# EAGLE library part BNO055 (library fehlendeTeile)
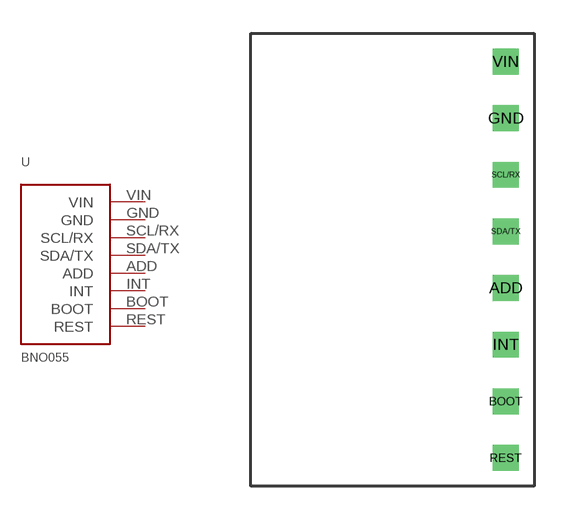
[diagram p1: symbol with the pads of BNO055; footprint BNO055]

Designator prefix -

## BNO055  [BNO055]
ADD  ADD
BOOT  BOOT
GND  GND
INT  INT
REST  REST
SCL/RX  SCL/RX
SDA/TX  SDA/TX
VIN  VIN

## Footprint BNO055 (pad centres in mm)
drill 0.65 square: ADD 11.43,8.89; BOOT 11.43,3.81; GND 11.43,16.51; INT 11.43,6.35; REST 11.43,1.27; SCL/RX 11.43,13.97; SDA/TX 11.43,11.43; VIN 11.43,19.05